# Altium footprint library Power_Converters IC's.PcbLib: 11 footprints
Each footprint in its own frame and in the unit in brackets; x right, y up, seen from the top. Pads: shape width x height; smd on the part's side, far side on the other; paste and mask are expansions set on the pad; w line width, h text height; cw(c..) or ccw(c..) is an arc to the next point about the centre after c.
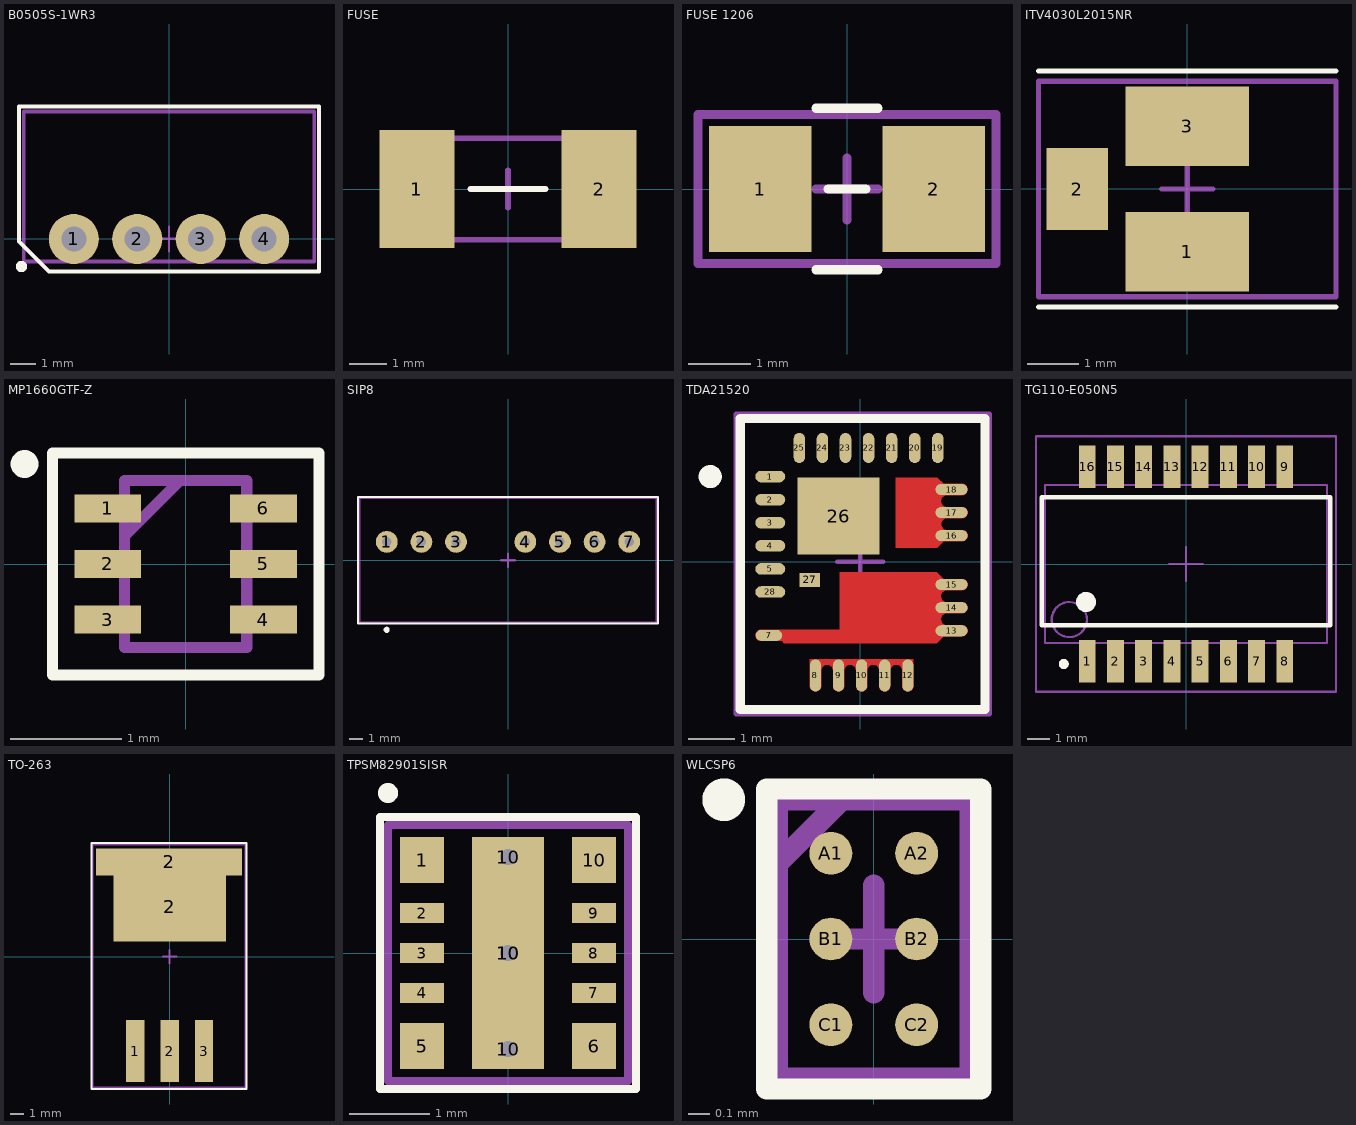
[diagram p0: the footprints below, top view; thin cyan lines are the x and y axes]

## B0505S-1WR3 [mm]
pads (4):
  round 2 hole 1 mask+0.08: 1(-3.81,0) 2(-1.27,0) 3(1.27,0) 4(3.81,0)
Top Overlay:
  circle w0.254: c-5.9,-1.1 r0.1
  lines w0.15: -6,-0.1 -4.8,-1.3 6,-1.3 6,5.3 -6,5.3 -6,-0.1
Mechanical 15:
  lines w0.1: -0.5,0 0.5,0 ; 0,-0.5 0,0.5
  lines w0.15: -5.81,-0.9 5.81,-0.9 5.81,5.1 -5.81,5.1 -5.81,-0.9
3D body "B_S-1WR3.stp": height 10.2, standoff -4.06, extent -5.8,-0.85 5.8,5.15

## FUSE [mm]
height 3
pads (2):
  rect 2x3.15 smd: 1(-2.43,0) 2(2.43,0)
Top Overlay:
  lines w0.15: -1,0 1,0
Mechanical 13:
  lines w0.15: -0.5,0 0.5,0 ; 0,-0.5 0,0.5 ; -3.05,-1.35 3.05,-1.35 3.05,1.35 -3.05,1.35 -3.05,-1.35
3D body "User Library-FUSE_NANO2.step": height 2.7, standoff 0, extent -3.05,-1.35 3.05,1.35

## FUSE 1206 [mm]
pads (2):
  rect 1.65x2.03 smd: 1(-1.4,0) 2(1.4,0)
Top Overlay:
  lines w0.15: -0.5,-1.3 0.5,-1.3 ; -0.5,1.3 0.5,1.3 ; -0.3,0 0.3,0
Mechanical 15:
  lines w0.15: -0.5,0 0.5,0 ; 0,-0.5 0,0.5 ; -2.4,-1.2 2.4,-1.2 2.4,1.2 -2.4,1.2 -2.4,-1.2
3D body "User Library-SF-1206F.SLDPRT": height 0.61, standoff 0, extent -1.55,-0.775 1.55,0.775

## ITV4030L2015NR [mm]
pads (3):
  rect 2.4x1.55 smd mask+0.05: 1(0,-1.225) 3(0,1.225)
  rect 1.2x1.6 smd mask+0.05: 2(-2.15,0)
Top Overlay:
  lines w0.1: -2.9,-2.3 2.9,-2.3 ; -2.9,2.3 2.9,2.3
Mechanical 15:
  lines w0.1: -0.5,0 0.5,0 ; 0,-0.5 0,0.5 ; -2.9,-2.1 2.9,-2.1 2.9,2.1 -2.9,2.1 -2.9,-2.1

## MP1660GTF-Z [mm]
pads (6):
  rect 0.6x0.25 smd: 1(-0.7,0.5) 2(-0.7,0) 3(-0.7,-0.5) 4(0.7,-0.5) 5(0.7,0) 6(0.7,0.5)
Top Overlay:
  circle w0.15: c-1.45,0.9 r0.05
  lines w0.1: -1.2,-1 1.2,-1 1.2,1 -1.2,1 -1.2,-1
Mechanical 15:
  lines w0.1: -0.55,0.25 -0.05,0.75 ; -0.55,-0.75 0.55,-0.75 0.55,0.75 -0.55,0.75 -0.55,-0.75
3D body "User Library-SOT-563_TI.STEP": height 0.59, standoff 0, extent -0.813,-0.8 0.813,0.8

## SIP8 [mm]
height 11
pads (7):
  round 1.6 hole 0.7: 1(-8.89,1.35) 2(-6.35,1.35) 3(-3.81,1.35) 4(1.27,1.35) 5(3.81,1.35) 6(6.35,1.35) 7(8.89,1.35)
Top Overlay:
  circle w0.25: c-8.9,-5.1 r0.1
  lines w0.15: -11,-4.65 11,-4.65 11,4.65 -11,4.65 -11,-4.65
Mechanical 13:
  lines w0.15: -0.5,0 0.5,0 ; 0,-0.5 0,0.5 ; -10.9,-4.55 10.9,-4.55 10.9,4.55 -10.9,4.55 -10.9,-4.55
3D body "User Library-RECOM_RS_Series.step": height 11.1, standoff -3.5, extent -11.1,-4.5 10.7,4.7

## TDA21520 [mm]
pads (27):
  rrect100% 0.65x0.25 smd paste-0.125 mask+0: 1(-1.95,1.844) 2(-1.95,1.344) 3(-1.95,0.844) 4(-1.95,0.344) 5(-1.95,-0.156) 28(-1.95,-0.656)
  rrect100% 0.575x0.24 smd paste-0.125 mask+0: 7(-1.977,-1.596)
  rrect100% 0.24x0.695 smd paste-0.125 mask-0.7: 8(-0.97,-2.464) 9(-0.47,-2.464) 10(0.03,-2.464) 11(0.53,-2.464) 12(1.03,-2.464)
  rrect100% 0.695x0.24 smd paste-0.125 mask-0.7: 13(1.977,-1.496) 14(1.977,-0.996) 15(1.977,-0.496) 16(1.977,0.564) 17(1.977,1.064) 18(1.977,1.564)
  rrect100% 0.25x0.65 smd paste-0.125 mask+0: 19(1.68,2.464) 20(1.179,2.464) 21(0.68,2.464) 22(0.18,2.464) 23(-0.32,2.464) 24(-0.82,2.464) 25(-1.32,2.464)
  rect 1.78x1.67 smd paste-0.975 mask+0: 26(-0.471,0.989)
  rect 0.45x0.3 smd paste-0.15 mask+0: 27(-1.096,-0.396)
Top Layer:
  region: 1.655,-0.226 1.806,-0.376 2.205,-0.376 2.229,-0.376 2.272,-0.394 2.306,-0.428 2.324,-0.471 2.324,-0.495 2.324,-0.497 2.324,-0.521 2.306,-0.564 2.272,-0.598 2.229,-0.616 2.205,-0.616 1.875,-0.616 1.851,-0.618 1.805,-0.637 1.77,-0.672 1.751,-0.718 1.749,-0.742 1.749,-0.749 1.751,-0.774 1.77,-0.82 1.805,-0.855 1.851,-0.874 1.875,-0.876 2.206,-0.876 2.229,-0.876 2.273,-0.894 2.306,-0.928 2.324,-0.971 2.324,-0.995 2.324,-0.997 2.324,-1.021 2.306,-1.064 2.272,-1.097 2.229,-1.116 2.205,-1.116 1.875,-1.116 1.851,-1.118 1.805,-1.137 1.77,-1.172 1.751,-1.217 1.749,-1.242 1.749,-1.249 1.751,-1.274 1.77,-1.319 1.805,-1.354 1.851,-1.373 1.875,-1.376 2.206,-1.376 2.229,-1.376 2.273,-1.394 2.306,-1.427 2.324,-1.471 2.324,-1.495 2.324,-1.498 2.324,-1.521 2.306,-1.565 2.272,-1.598 2.229,-1.616 2.206,-1.616 1.806,-1.616 1.655,-1.766 -1.654,-1.766 -1.693,-1.716 -2.157,-1.716 -2.18,-1.716 -2.224,-1.697 -2.258,-1.664 -2.276,-1.62 -2.276,-1.596 -2.276,-1.572 -2.258,-1.528 -2.224,-1.494 -2.18,-1.476 -2.157,-1.476 -0.444,-1.476 -0.444,-0.226
  region: 1.809,1.684 2.209,1.684 2.231,1.684 2.272,1.667 2.304,1.635 2.321,1.594 2.321,1.572 2.321,1.557 2.321,1.535 2.304,1.493 2.272,1.462 2.231,1.445 2.209,1.445 1.877,1.445 1.852,1.442 1.805,1.423 1.77,1.387 1.75,1.34 1.748,1.315 1.75,1.29 1.77,1.242 1.806,1.206 1.853,1.187 1.878,1.184 2.209,1.184 2.232,1.184 2.274,1.167 2.307,1.134 2.324,1.092 2.324,1.069 2.324,1.059 2.324,1.037 2.307,0.994 2.274,0.962 2.232,0.944 2.209,0.944 1.879,0.944 1.854,0.942 1.808,0.922 1.772,0.887 1.753,0.84 1.75,0.815 1.75,0.813 1.753,0.788 1.772,0.742 1.808,0.706 1.854,0.687 1.879,0.685 2.209,0.685 2.232,0.685 2.274,0.667 2.307,0.635 2.324,0.592 2.324,0.569 2.324,0.56 2.324,0.537 2.307,0.494 2.274,0.462 2.232,0.444 2.209,0.444 1.809,0.444 1.669,0.304 0.77,0.304 0.77,1.824 1.669,1.824
  region: 1.149,-2.116 1.149,-2.696 1.149,-2.718 1.132,-2.759 1.101,-2.79 1.06,-2.807 1.037,-2.807 1.02,-2.807 0.998,-2.807 0.958,-2.79 0.927,-2.759 0.91,-2.718 0.91,-2.696 0.91,-2.366 0.909,-2.366 0.909,-2.362 0.907,-2.336 0.887,-2.289 0.851,-2.254 0.804,-2.234 0.779,-2.232 0.754,-2.234 0.707,-2.254 0.671,-2.289 0.652,-2.336 0.649,-2.362 0.649,-2.696 0.649,-2.718 0.632,-2.758 0.601,-2.79 0.56,-2.807 0.538,-2.807 0.52,-2.807 0.498,-2.807 0.458,-2.79 0.426,-2.758 0.409,-2.718 0.409,-2.696 0.409,-2.362 0.407,-2.336 0.388,-2.289 0.352,-2.254 0.305,-2.234 0.279,-2.232 0.254,-2.234 0.207,-2.254 0.171,-2.289 0.152,-2.336 0.149,-2.362 0.149,-2.696 0.149,-2.718 0.132,-2.759 0.101,-2.79 0.061,-2.807 0.039,-2.807 0.021,-2.807 -0.001,-2.807 -0.042,-2.79 -0.073,-2.758 -0.09,-2.718 -0.09,-2.696 -0.09,-2.362 -0.093,-2.336 -0.112,-2.289 -0.148,-2.254 -0.195,-2.234 -0.22,-2.232 -0.246,-2.234 -0.293,-2.254 -0.329,-2.289 -0.348,-2.336 -0.35,-2.362 -0.35,-2.696 -0.35,-2.718 -0.367,-2.758 -0.399,-2.79 -0.439,-2.807 -0.461,-2.807 -0.48,-2.807 -0.501,-2.807 -0.542,-2.79 -0.573,-2.759 -0.59,-2.718 -0.59,-2.696 -0.59,-2.366 -0.591,-2.366 -0.591,-2.361 -0.593,-2.336 -0.613,-2.289 -0.648,-2.253 -0.695,-2.234 -0.721,-2.232 -0.746,-2.234 -0.793,-2.253 -0.828,-2.289 -0.848,-2.336 -0.85,-2.361 -0.85,-2.696 -0.85,-2.718 -0.867,-2.758 -0.898,-2.79 -0.939,-2.807 -0.961,-2.807 -0.979,-2.807 -1.001,-2.807 -1.042,-2.79 -1.073,-2.759 -1.09,-2.718 -1.09,-2.696 -1.091,-2.696 -1.091,-2.116
Top Overlay:
  circle w0.25: c-3.25,1.844 r0.125
  lines w0.2: -2.6,-3.2 -2.6,3.1 2.7,3.1 2.7,-3.2 -2.6,-3.2
Top Paste:
  region: -0.571,0.174 -1.35,0.174 -1.35,0.894 -0.57,0.894
  region: -0.571,1.094 -1.35,1.094 -1.35,1.814 -0.571,1.814
  region: 0.789,-0.236 1.559,-0.236 1.559,-0.896 0.789,-0.896
  region: 0.409,1.094 -0.37,1.094 -0.37,1.814 0.41,1.814
  region: 0.409,0.174 -0.37,0.174 -0.37,0.894 0.41,0.894
  region: 0.59,-1.756 -0.431,-1.756 -0.431,-1.096 0.59,-1.096
  region: 0.59,-0.896 -0.431,-0.896 -0.431,-0.236 0.59,-0.236
  region: -0.816,-1.756 -1.315,-1.756 -1.315,-1.487 -0.816,-1.487
  region: 1.56,1.164 1.56,1.804 0.789,1.804 0.789,1.164
  region: 1.56,0.319 1.56,0.959 0.789,0.959 0.789,0.319
  region: 0.789,-1.096 1.559,-1.096 1.559,-1.756 0.789,-1.756
  region: -1.271,-0.271 -0.921,-0.271 -0.921,-0.521 -1.271,-0.521
  lines w0.24: -2.076,-1.596 -1.825,-1.596 ; 1.885,-1.496 2.135,-1.496 ; 1.885,-0.996 2.135,-0.996 ; 1.885,-0.496 2.135,-0.496 ; 1.884,0.564 2.135,0.564 ; 1.884,1.064 2.135,1.064 ; 1.884,1.564 2.135,1.564
  lines w0.25: -2.076,-0.656 -1.825,-0.656 ; -2.076,-0.156 -1.825,-0.156 ; -2.076,0.344 -1.825,0.344 ; -2.076,0.844 -1.825,0.844 ; -2.076,1.344 -1.825,1.344 ; -2.076,1.844 -1.825,1.844 ; -1.32,2.344 -1.32,2.594 ; -0.97,-2.621 -0.97,-2.241 ; -0.82,2.344 -0.82,2.594 ; -0.47,-2.621 -0.47,-2.241 ; -0.32,2.344 -0.32,2.594 ; 0.029,-2.621 0.029,-2.241 ; 0.18,2.344 0.18,2.594 ; 0.53,-2.621 0.53,-2.241 ; 0.68,2.344 0.68,2.594 ; 1.03,-2.621 1.03,-2.241 ; 1.179,2.344 1.179,2.594 ; 1.68,2.344 1.68,2.594
Mechanical 15:
  lines w0.1: -0.5,0 0.5,0 ; 0,-0.5 0,0.5 ; -2.7,-3.3 2.8,-3.3 2.8,3.2 -2.7,3.2 -2.7,-3.3
3D body "PG-IQFN-25-1_Z8B00190048_V02_3D.stp": height 1.01, standoff 0, extent -1.97,-2.516 2.03,2.484

## TG110-E050N5 [mm]
pads (16):
  rect 0.76x1.91 smd: 1(-4.445,-4.38) 2(-3.175,-4.38) 3(-1.905,-4.38) 4(-0.635,-4.38) 5(0.635,-4.38) 6(1.905,-4.38) 7(3.175,-4.38) 8(4.445,-4.38) 9(4.445,4.38) 10(3.175,4.38) 11(1.905,4.38) 12(0.635,4.38) 13(-0.635,4.38) 14(-1.905,4.38) 15(-3.175,4.38) 16(-4.445,4.38)
Top Overlay:
  circle w0.25: c-5.5,-4.5 r0.1
  circle w0.5: c-4.5,-1.709 r0.2
  lines w0.2: -6.5,-2.75 -6.5,3 6.5,3 6.5,-2.75 -6.5,-2.75
Mechanical 13:
  circle w0.1: c-5.25,-2.5 r0.791
  lines w0.1: -6.35,-3.555 6.35,-3.555 6.35,3.555 -6.35,3.555 -6.35,-3.555
  text ".Designator" at 1.75,0.5 h2
Mechanical 15:
  lines w0.1: -0.75,0 0.75,0 ; 0,-0.75 0,0.75 ; -6.75,-5.75 -6.75,5.75 6.75,5.75 6.75,-5.75 -6.75,-5.75
3D body "User Library-Halo_SMD10base-T Module.STEP": height 5.04, standoff 0, extent -6.35,-4.754 6.35,4.763

## TO-263 [mm]
pads (5):
  rect 1.35x4.6 smd: 1(-2.54,-7) 2(0,-7) 3(2.54,-7)
  rect 10.8x2 smd: 2(-0.04,7)
  rect 8.33x5.08 smd: 2(0,3.67)
Top Overlay:
  lines w0.15: -5.8,-9.8 5.7,-9.8 5.7,8.4 -5.8,8.4 -5.8,-9.8
Mechanical 15:
  lines w0.15: -0.5,0 0.5,0 ; 0,-0.5 0,0.5 ; -5.7,-9.7 5.6,-9.7 5.6,8.3 -5.7,8.3 -5.7,-9.7
3D body "User Library-TO263-3.STEP": height 4.78, standoff -0.02, extent -5.1,-8.185 4.9,7.485

## TPSM82901SISR [mm]
pads (14):
  rect 0.55x0.575 smd mask+0.05: 1(-1.075,1.162) 5(-1.075,-1.162) 6(1.075,-1.162) 10(1.075,1.162)
  rect 0.55x0.25 smd mask+0.05: 2(-1.075,0.5) 3(-1.075,0) 4(-1.075,-0.5) 7(1.075,-0.5) 8(1.075,0) 9(1.075,0.5)
  round 0.4 hole 0.2 unplated mask+0.05: 10(0,-1.2) 10(0,0) 10(0,1.2)
  rect 0.9x2.9 smd mask+0.05: 10(0,0)
Top Overlay:
  circle w0.15: c-1.5,2 r0.05
  lines w0.1: -1.6,-1.7 1.6,-1.7 1.6,1.7 -1.6,1.7 -1.6,-1.7
Mechanical 15:
  lines w0.1: -0.3,0 0.3,0 ; 0,-0.3 0,0.3 ; -1.5,-1.6 1.5,-1.6 1.5,1.6 -1.5,1.6 -1.5,-1.6
3D body "TPSM82901SISR.STEP": height 1.6, standoff 0, extent -1.4,-1.5 1.4,1.5

## WLCSP6 [mm] "1.20x0.80"
height 0.33
pads (6):
  round 0.2 smd: A1(-0.2,0.4) A2(0.2,0.4) B1(-0.2,0) B2(0.2,0) C1(-0.2,-0.4) C2(0.2,-0.4)
Top Overlay:
  circle w0.1: c-0.7,0.65 r0.05
  lines w0.1: -0.5,-0.7 -0.5,0.7 0.5,0.7 0.5,-0.7 -0.5,-0.7
Mechanical 15:
  lines w0.1: -0.45,0.35 -0.15,0.65 ; -0.25,0 0.25,0 ; 0,-0.25 0,0.25 ; -0.45,-0.65 0.45,-0.65 0.45,0.65 -0.45,0.65 -0.45,-0.65
3D body "User Library-User Library-WLCSP-6.step": height 0.62, standoff -0.01, extent -0.44,-0.613 0.44,0.613